# EAGLE library part AVRISP-6 (library perspection)
PIN HEADER
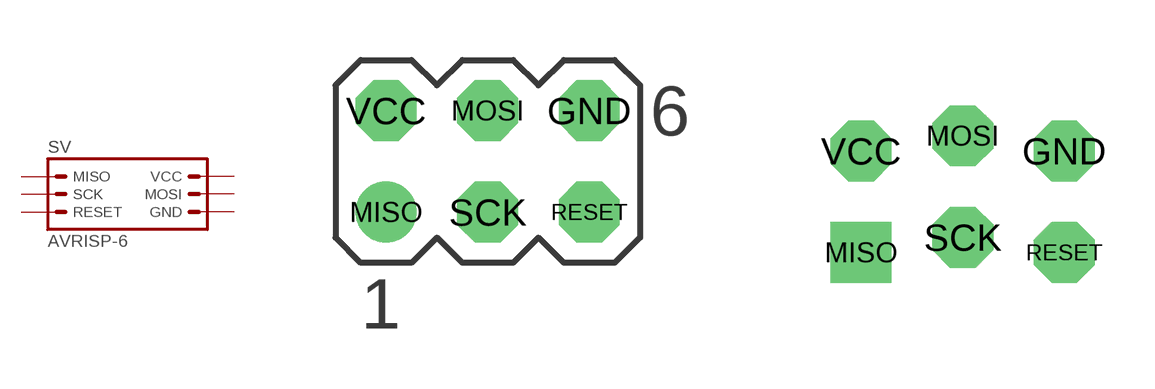
[diagram p11: symbol with the pads of AVRISP-6; footprints AVRISP-6, AVRISP-6_STAGGERED]

Designator prefix SV

## AVRISP-6_3X2_STANDARD (OC_FARNELL: unknown; OC_NEWARK: unknown)  [AVRISP-6]
GND  GND  pas
MISO  MISO  pas
MOSI  MOSI  pas
RESET  RESET  pas
SCK  SCK  pas
VCC  VCC  pas

## AVRISP-6_3X2_STAGGERED  [AVRISP-6_STAGGERED]
Pads as for AVRISP-6

## AVRISP-6_3X2_SMD  [AVRISP-6-SMD]
Pads as for AVRISP-6

## AVRISP-6_3X2_PLUG_OF_NAILS  [TC2030-IDC]
1  MISO  pas
2  SCK  pas
3  RESET  pas
4  GND  pas
5  MOSI  pas
6  VCC  pas

## AVRISP-6_3X2_PLUG_OF_NAILS_NL  [TC2030-IDC-NL]
Pads as for TC2030-IDC

## Footprint AVRISP-6 (pad centres in mm)
PIN HEADER
drill 1.016 octagon: GND 2.54,1.27; MOSI 0,1.27; RESET 2.54,-1.27; SCK 0,-1.27; VCC -2.54,1.27
drill 1.016: MISO -2.54,-1.27

## Footprint AVRISP-6_STAGGERED (pad centres in mm)
drill 1.016 octagon: GND 2.54,1.079; MOSI 0,1.46; RESET 2.54,-1.46; SCK 0,-1.079; VCC -2.54,1.079
drill 1.016 square: MISO -2.54,-1.46

## Footprint AVRISP-6-SMD (pad centres in mm)
smd 3.81 x 1.27: GND 0.635,2.54; MOSI 0.635,0; VCC 0.635,-2.54
smd 3.81 x 1.27 bottom: MISO 0.635,-2.54; RESET 0.635,2.54; SCK 0.635,0

## Footprint TC2030-IDC (pad centres in mm)
smd 0.787 x 0.787: 1 1.27,-0.635; 2 2.54,-0.635; 3 3.81,-0.635; 4 3.81,0.635; 5 2.54,0.635; 6 1.27,0.635
hole 0.991 at 5.08,1.016
hole 0.991 at 5.08,-1.016
hole 0.991 at 0,0
hole 2.375 at 0,2.54
hole 2.375 at 0,-2.54
hole 2.375 at 3.175,2.54
hole 2.375 at 3.175,-2.54

## Footprint TC2030-IDC-NL (pad centres in mm)
smd 0.787 x 0.787: 1 1.27,-0.635; 2 2.54,-0.635; 3 3.81,-0.635; 4 3.81,0.635; 5 2.54,0.635; 6 1.27,0.635
hole 0.991 at 5.08,1.016
hole 0.991 at 5.08,-1.016
hole 0.991 at 0,0